# EAGLE library part RHM1620CT-ND (library shit)
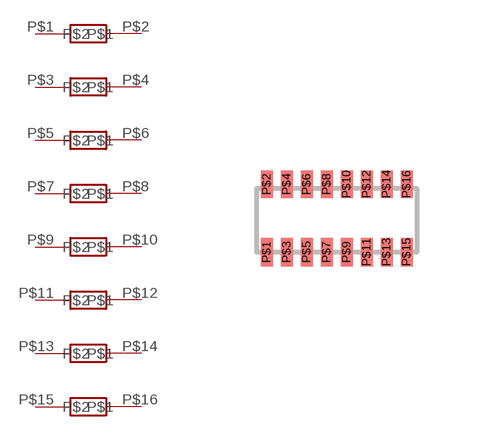
[diagram p10: symbol with the pads of MNR18; footprint MNR18]

Designator prefix -; gates G$1=RESISTOR G$2=RESISTOR G$3=RESISTOR G$4=RESISTOR G$5=RESISTOR G$6=RESISTOR G$7=RESISTOR G$8=RESISTOR

## RHM1620CT-ND  [MNR18]
P$1  G$1:P$1
P$2  G$1:P$2
P$3  G$2:P$1
P$4  G$2:P$2
P$5  G$3:P$1
P$6  G$3:P$2
P$7  G$4:P$1
P$8  G$4:P$2
P$9  G$5:P$1
P$10  G$5:P$2
P$11  G$6:P$1
P$12  G$6:P$2
P$13  G$7:P$1
P$14  G$7:P$2
P$15  G$8:P$1
P$16  G$8:P$2

## Footprint MNR18 (pad centres in mm)
smd 0.3 x 0.7: P$1 -1,-1; P$2 -1,0.7; P$3 -0.5,-1; P$4 -0.5,0.7; P$5 0,-1; P$6 0,0.7; P$7 0.5,-1; P$8 0.5,0.7; P$9 1,-1; P$10 1,0.7; P$11 1.5,-1; P$12 1.5,0.7; P$13 2,-1; P$14 2,0.7; P$15 2.5,-1; P$16 2.5,0.7